# Altium schematic symbol library 22289033.SchLib: 2 symbols
Pins are listed as number, name and electrical type; pins without a type are passive.

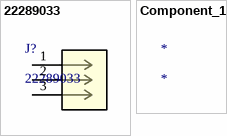
[diagram p0: symbols 22289033 to Component_1]

## 22289033
designator J?
KK 254 Breakaway Header, Right-Angle Surface Mount Compatible, 3 Circuits, 0.38Âµm Gold (Au) Selective Plating, Mating Pin Length 8.23mm, with Kinked PC Tails; Manufacturer_Name: Molex Connector Corporation; Copyright: Copyright (C) 2025 Ultra Librarian. All rights reserved.; Manufacturer_Part_Number: 22289033; Datasheet: https://www.molex.com/en-us/products/part-detail-pdf/22289033?display=pdf; RefDes: RefDes; Type: Type
footprint CONN03_22289033_MOL
pins: 1, 2, 3

## Component_1
designator *